# Altium footprint library RESAD975W59L900D300.PcbLib: 1 footprints
Each footprint in its own frame and in the unit in brackets; x right, y up, seen from the top. Pads: shape width x height; smd on the part's side, far side on the other; paste and mask are expansions set on the pad; w line width, h text height; cw(c..) or ccw(c..) is an arc to the next point about the centre after c.
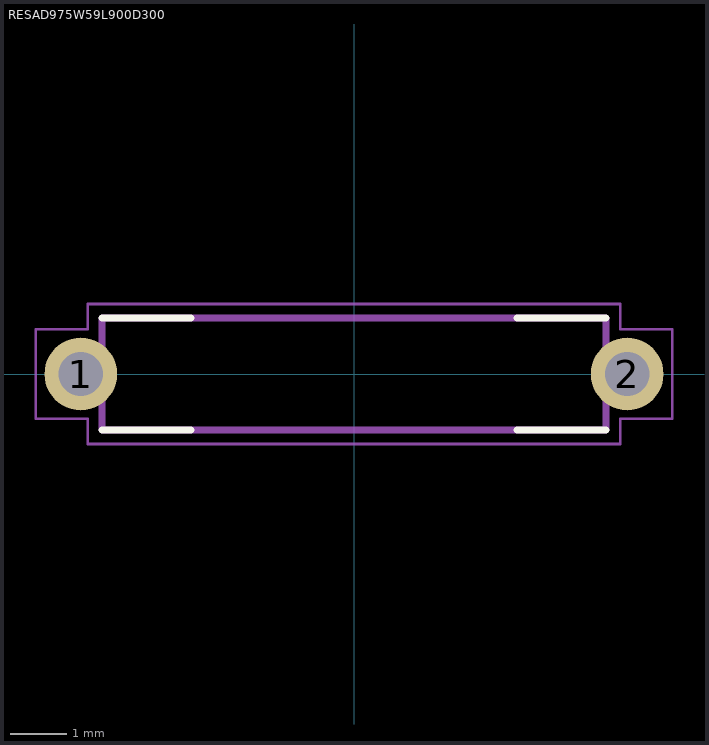
[diagram p0: the footprint, top view; thin cyan lines are the x and y axes]

## RESAD975W59L900D300 [mm]
pads (2):
  round 1.298 hole 0.79: 1(-4.875,0) 2(4.875,0)
Top Overlay:
  lines w0.127: -4.5,-1 -2.908,-1 ; -4.5,1 -2.908,1 ; 2.908,-1 4.5,-1 ; 2.908,1 4.5,1
Mechanical 13:
  lines w0.127: -4.5,-1 4.5,-1 4.5,1 -4.5,1 -4.5,-1
Mechanical 15:
  lines w0.05: -5.678,-0.8 -5.678,0.8 -4.75,0.8 -4.75,1.25 4.75,1.25 4.75,0.8 5.678,0.8 5.678,-0.8 4.75,-0.8 4.75,-1.25 -4.75,-1.25 -4.75,-0.8 -5.678,-0.8
3D body "step_temp.STEP": height 83.8, standoff 81.81, extent 89.027,-2 99.144,0